# Altium schematic symbol library SCH - POWER - LINEAR VREG - DIODES INC AP7313.SCHLIB: 1 symbol
Pins are listed as number, name and electrical type; pins without a type are passive.

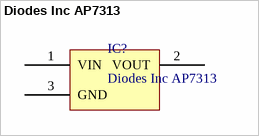
[diagram p0: symbol Diodes Inc AP7313]

## Diodes Inc AP7313
designator IC?
150mA Low quiescent current fast transient low drop out linear regulator
pins: 1 VIN, 2 VOUT, 3 GND